# Altium footprint library R-RJ45R10P-B000.PCBLIB: 1 footprints
Each footprint in its own frame and in the unit in brackets; x right, y up, seen from the top. Pads: shape width x height; smd on the part's side, far side on the other; paste and mask are expansions set on the pad; w line width, h text height; cw(c..) or ccw(c..) is an arc to the next point about the centre after c.
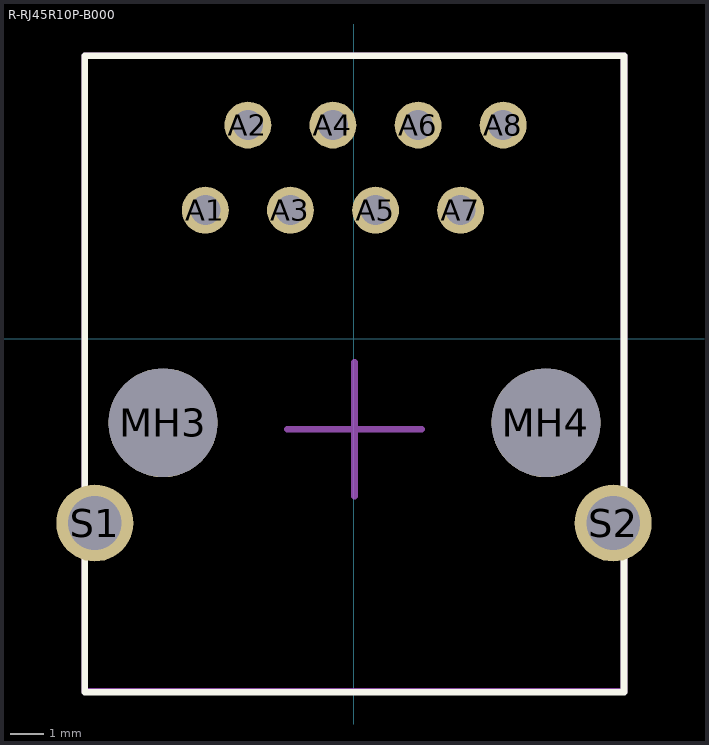
[diagram p0: the footprint, top view; thin cyan lines are the x and y axes]

## R-RJ45R10P-B000 [mm]
pads (12):
  round 1.4 hole 0.9: A1(-4.425,3.842) A2(-3.155,6.382) A3(-1.885,3.842) A4(-0.615,6.382) A5(0.655,3.842) A6(1.925,6.382) A7(3.195,3.842) A8(4.465,6.382)
  round 3.25 hole 3.25 unplated: MH3(-5.69,-2.508) MH4(5.74,-2.508)
  round 2.3 hole 1.6: S1(-7.725,-5.5) S2(7.75,-5.5)
Top Overlay:
  lines w0.2: -8.025,-10.55 8.075,-10.55 8.075,8.45 -8.025,8.45 -8.025,-10.55
Top Assembly:
  lines w0.2: -8.025,-10.525 -8.025,8.45 8.081,8.45 8.081,-10.525 -8.025,-10.525
Top Courtyard:
  lines w0.2: -8.025,-10.525 8.075,-10.525 8.075,8.45 -8.025,8.45 -8.025,-10.525
Top Designator:
  text ".Designator" at -5.371,8.959 h1.52
Top Component Center:
  lines w0.2: -1.975,-2.7 2.025,-2.7 ; 0.025,-4.7 0.025,-0.7
3D body "RJ45_R10P.STEP": height 14.5, standoff -1.9, extent -7.9,-10.425 7.9,8.375